# Altium integrated library NXP Semiconductors Automotive MOSFETs.IntLib: 540 symbols (part 16 of 16)
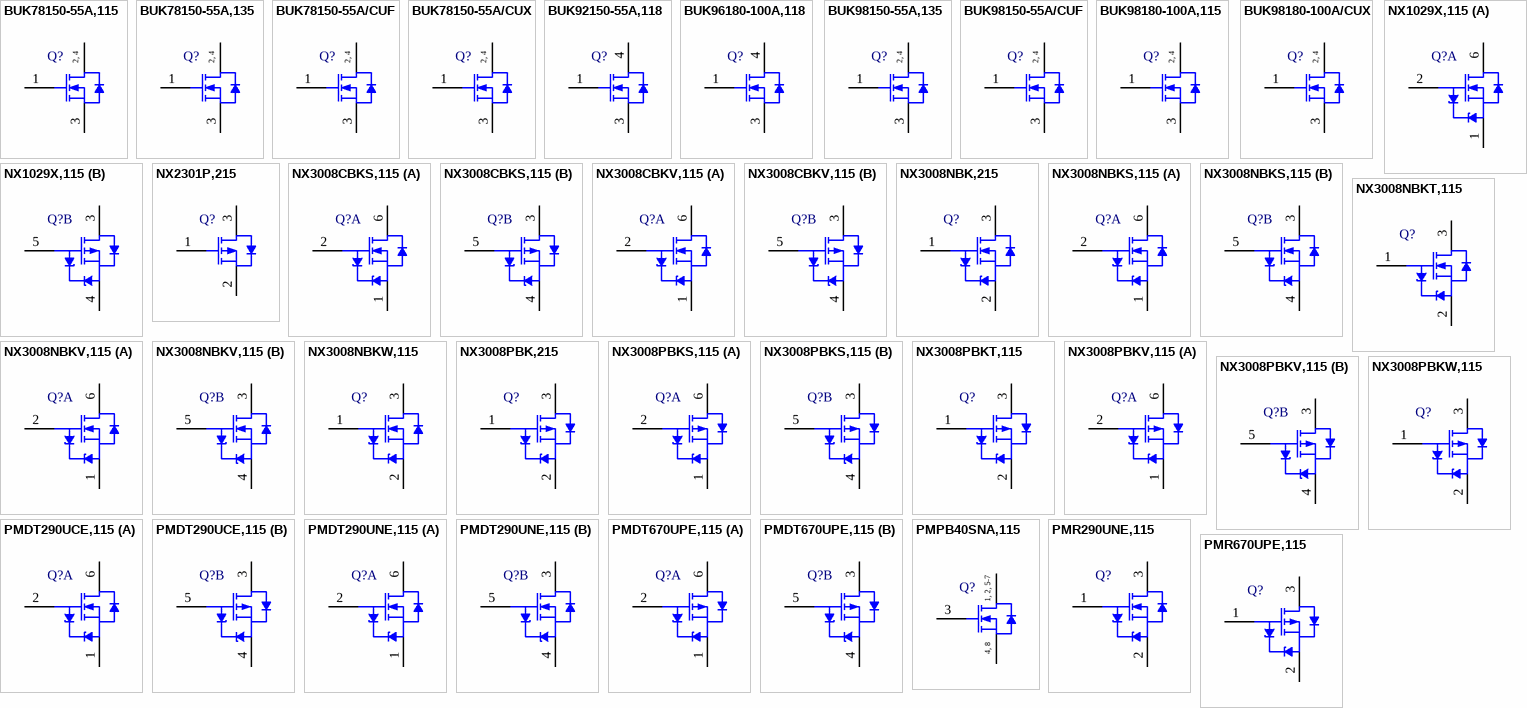
[diagram p29: symbols BUK78150-55A,115 to PMR670UPE,115]

## PMDT290UCE,115
designator Q?
N/P-Channel Trench MOSFET, 20 / -20 V, 800 / -550 mA, -55 to 150 degC, 6-Pin SOT666, Tape and Reel; Manufacturer: NXP Semiconductors; PartNumber: PMDT290UCE,115; Automotive Qualified: Y; Channel Type: N/P; Packing: Tape & Reel; DatasheetVersion: Rev. 1; PackageVersion: 06-03-16, 03/2006; PackageReference: SOT666; PackageDescription: 6-Pin Small Outline Transistor Package, Body 1.6 x 1.2 mm, Pitch 0.5 mm; Supplier 1: Digi-Key; Supplier Part Number 1: 568-10765-2-ND; Supplier 2: Digi-Key; Supplier Part Number 2: 568-10765-1-ND; Supplier 3: Digi-Key; Supplier Part Number 3: 568-10765-6-ND; Supplier 4: Mouser; Supplier Part Number 4: 771-PMDT290UCE,115; Mounting Technology: Surface Mount; ComponentLink1Description: Manufacturer URL; ComponentLink1URL: http://www.nxp.com/; ComponentLink2Description: Datasheet; ComponentLink2URL: http://www.nxp.com/documents/data_sheet/PMDT290UCE.pdf; ComponentLink3Description: Package Specification; ComponentLink3URL: http://www.nxp.com/documents/outline_drawing/sot666_po.pdf
footprint NXP-SOT666_N (SOT23, 6-Leads, Body 1.7x1.3mm, Pitch 0.5mm, IPC Medium Density)
footprint NXP-SOT666_L (SOT23, 6-Leads, Body 1.7x1.3mm, Pitch 0.5mm, IPC High Density)
footprint NXP-SOT666_M (SOT23, 6-Leads, Body 1.7x1.3mm, Pitch 0.5mm, IPC Low Density)
part A pins: 1 S1 "source TR1", 2 G1 "gate TR1", 6 D1 "drain TR1"
part B pins: 3 D2 "drain TR2", 4 S2 "source TR2", 5 G2 "gate TR2"

## PMDT290UNE,115
designator Q?
Dual N-Channel Trench MOSFET, 20 V, 0.8 A, -55 to 150 degC, 6-Pin SOT666, Tape and Reel; Manufacturer: NXP Semiconductors; PartNumber: PMDT290UNE,115; Automotive Qualified: Y; Channel Type: N; ID [max] (A): 0.8; IDM [max] (A): 3.2; Packing: Tape & Reel; VDS [max] (V): 20; VGSth [typ] (V): 0.75; DatasheetVersion: Rev. 1; PackageVersion: 06-03-16, 03/2006; PackageReference: SOT666; PackageDescription: 6-Pin Small Outline Transistor Package, Body 1.6 x 1.2 mm, Pitch 0.5 mm; Supplier 1: Digi-Key; Supplier Part Number 1: 568-10766-2-ND; Supplier 2: Digi-Key; Supplier Part Number 2: 568-10766-1-ND; Supplier 3: Digi-Key; Supplier Part Number 3: 568-10766-6-ND; Supplier 4: Mouser; Supplier Part Number 4: 771-PMDT290UNE,115; Mounting Technology: Surface Mount; ComponentLink1Description: Manufacturer URL; ComponentLink1URL: http://www.nxp.com/; ComponentLink2Description: Datasheet; ComponentLink2URL: http://www.nxp.com/documents/data_sheet/PMDT290UNE.pdf; ComponentLink3Description: Package Specification; ComponentLink3URL: http://www.nxp.com/documents/outline_drawing/sot666_po.pdf
footprint NXP-SOT666_N (SOT23, 6-Leads, Body 1.7x1.3mm, Pitch 0.5mm, IPC Medium Density)
footprint NXP-SOT666_L (SOT23, 6-Leads, Body 1.7x1.3mm, Pitch 0.5mm, IPC High Density)
footprint NXP-SOT666_M (SOT23, 6-Leads, Body 1.7x1.3mm, Pitch 0.5mm, IPC Low Density)
part A pins: 1 S1 "source TR1", 2 G1 "gate TR1", 6 D1 "drain TR1"
part B pins: 3 D2 "drain TR2", 4 S2 "source TR2", 5 G2 "gate TR2"

## PMDT670UPE,115
designator Q?
Dual P-Channel Trench MOSFET, -20 V, -0.55 A, -55 to 150 degC, 6-Pin SOT666, Tape and Reel; Manufacturer: NXP Semiconductors; PartNumber: PMDT670UPE,115; Automotive Qualified: Y; Channel Type: P; IDM [max] (A): -2.2; Packing: Tape & Reel; VGSth [typ] (V): -0.8; DatasheetVersion: Rev. 1; PackageVersion: 06-03-16, 03/2006; PackageReference: SOT666; PackageDescription: 6-Pin Small Outline Transistor Package, Body 1.6 x 1.2 mm, Pitch 0.5 mm; Supplier 1: Digi-Key; Supplier Part Number 1: 568-10767-2-ND; Supplier 2: Digi-Key; Supplier Part Number 2: 568-10767-1-ND; Supplier 3: Digi-Key; Supplier Part Number 3: 568-10767-6-ND; Supplier 4: Mouser; Supplier Part Number 4: 771-PMDT670UPE,115; ID [max] (A): -0.55; VDS [max] (V): -20; Mounting Technology: Surface Mount; ComponentLink1Description: Manufacturer URL; ComponentLink1URL: http://www.nxp.com/; ComponentLink2Description: Datasheet; ComponentLink2URL: http://www.nxp.com/documents/data_sheet/PMDT670UPE.pdf; ComponentLink3Description: Package Specification; ComponentLink3URL: http://www.nxp.com/documents/outline_drawing/sot666_po.pdf
footprint NXP-SOT666_N (SOT23, 6-Leads, Body 1.7x1.3mm, Pitch 0.5mm, IPC Medium Density)
footprint NXP-SOT666_L (SOT23, 6-Leads, Body 1.7x1.3mm, Pitch 0.5mm, IPC High Density)
footprint NXP-SOT666_M (SOT23, 6-Leads, Body 1.7x1.3mm, Pitch 0.5mm, IPC Low Density)
part A pins: 1 S1 "source TR1", 2 G1 "gate TR1", 6 D1 "drain TR1"
part B pins: 3 D2 "drain TR2", 4 S2 "source TR2", 5 G2 "gate TR2"

## PMPB40SNA,115
designator Q?
N-Channel Trench MOSFET, 60 V, -55 to 150 degC, 8-Pin SOT1220, Reel; Manufacturer: NXP Semiconductors; PartNumber: PMPB40SNA,115; Automotive Qualified: Y; Channel Type: N; IDM [max] (A): 23; VDS [max] (V): 60; VGSth [typ] (V): 1.7; DatasheetVersion: Rev. 3; PackageVersion: 12-04-30, 04/2012; PackageReference: SOT1220; PackageDescription: 6-Pin Small Outline No-Lead, Body 2 x 2 mm, Pitch 0.65 mm; Supplier 1: Digi-Key; Supplier Part Number 1: 568-10446-2-ND; Supplier 2: Digi-Key; Supplier Part Number 2: 568-10446-1-ND; Supplier 3: Digi-Key; Supplier Part Number 3: 568-10446-6-ND; Supplier 4: Mouser; Supplier Part Number 4: 771-PMPB40SNA115; Packing: Reel; Mounting Technology: Surface Mount; ComponentLink1Description: Manufacturer URL; ComponentLink1URL: http://www.nxp.com/; ComponentLink2Description: Datasheet; ComponentLink2URL: http://www.nxp.com/documents/data_sheet/PMPB40SNA.pdf; ComponentLink3Description: Package Specification; ComponentLink3URL: http://www.nxp.com/documents/outline_drawing/sot1220_po.pdf
footprint NXP-SOT1220_N (SON, 6-Leads, Body 2.1x2.1mm, Pitch 0.65mm, IPC Medium Density)
footprint NXP-SOT1220_L (SON, 6-Leads, Body 2.1x2.1mm, Pitch 0.65mm, IPC High Density)
footprint NXP-SOT1220_M (SON, 6-Leads, Body 2.1x2.1mm, Pitch 0.65mm, IPC Low Density)
pins: 1 D "drain", 2 D "drain", 3 G "gate", 4 S "source", 5 D "drain", 6 D "drain", 7 D "drain", 8 S "source"
text: 1, 2, 5-7; 4, 8

## PMR290UNE,115
designator Q?
N-Channel Trench MOSFET, 20 V, 0.7 A, -55 to 150 degC, 3-Pin SOT416, Tape and Reel; Manufacturer: NXP Semiconductors; PartNumber: PMR290UNE,115; Automotive Qualified: Y; Channel Type: N; ID [max] (A): 0.7; IDM [max] (A): 2.8; Packing: Tape & Reel; VDS [max] (V): 20; VGSth [typ] (V): 0.75; DatasheetVersion: Rev. 1; PackageVersion: 06-03-16, 03/2006; PackageReference: SOT416_B; PackageDescription: 3-Pin Small Outline Transistor Package, Body 1.6 x 0.8 mm, Pitch 0.5 mm; Supplier 1: Digi-Key; Supplier Part Number 1: 568-10319-2-ND; Supplier 2: Digi-Key; Supplier Part Number 2: 568-10319-1-ND; Supplier 3: Digi-Key; Supplier Part Number 3: 568-10319-6-ND; Supplier 4: Mouser; Supplier Part Number 4: 771-PMR290UNE,115; Mounting Technology: Surface Mount; Code_JEITA: SC-75; ComponentLink1Description: Manufacturer URL; ComponentLink1URL: http://www.nxp.com/; ComponentLink2Description: Datasheet; ComponentLink2URL: http://www.nxp.com/documents/data_sheet/PMR290UNE.pdf; ComponentLink3Description: Package Specification; ComponentLink3URL: http://www.nxp.com/documents/data_sheet/2N7002PT.pdf
footprint NXP-SOT416_B_N (SOT23, 3-Leads, Body 1.6x0.8mm, Pitch 0.5mm, IPC Medium Density)
footprint NXP-SOT416_B_L (SOT23, 3-Leads, Body 1.6x0.8mm, Pitch 0.5mm, IPC High Density)
footprint NXP-SOT416_B_M (SOT23, 3-Leads, Body 1.6x0.8mm, Pitch 0.5mm, IPC Low Density)
pins: 1 G "gate", 2 S "source", 3 D "drain"

## PMR670UPE,115
designator Q?
P-Channel Trench MOSFET, -20 V, -0.48 A, -55 to 150 degC, 3-Pin SOT416, Tape and Reel; Manufacturer: NXP Semiconductors; PartNumber: PMR670UPE,115; Automotive Qualified: Y; Channel Type: P; IDM [max] (A): -1.9; Packing: Tape & Reel; VGSth [typ] (V): -0.8; DatasheetVersion: Rev. 1; PackageVersion: 06-03-16, 03/2006; PackageReference: SOT416_B; PackageDescription: 3-Pin Small Outline Transistor Package, Body 1.6 x 0.8 mm, Pitch 0.5 mm; Supplier 1: Digi-Key; Supplier Part Number 1: 568-10825-2-ND; Supplier 2: Digi-Key; Supplier Part Number 2: 568-10825-1-ND; Supplier 3: Digi-Key; Supplier Part Number 3: 568-10825-6-ND; Supplier 4: Mouser; Supplier Part Number 4: 771-PMR670UPE,115; ID [max] (A): -0.48; VDS [max] (V): -20; Mounting Technology: Surface Mount; Code_JEITA: SC-75; ComponentLink1Description: Manufacturer URL; ComponentLink1URL: http://www.nxp.com/; ComponentLink2Description: Datasheet; ComponentLink2URL: http://www.nxp.com/documents/data_sheet/PMR670UPE.pdf; ComponentLink3Description: Package Specification; ComponentLink3URL: http://www.nxp.com/documents/data_sheet/2N7002PT.pdf
footprint NXP-SOT416_B_N (SOT23, 3-Leads, Body 1.6x0.8mm, Pitch 0.5mm, IPC Medium Density)
footprint NXP-SOT416_B_L (SOT23, 3-Leads, Body 1.6x0.8mm, Pitch 0.5mm, IPC High Density)
footprint NXP-SOT416_B_M (SOT23, 3-Leads, Body 1.6x0.8mm, Pitch 0.5mm, IPC Low Density)
pins: 1 G "gate", 2 S "source", 3 D "drain"